# Altium integrated library IRF3710PBF-ND.IntLib: 1 symbol
Pins are listed as number, name and electrical type; pins without a type are passive.

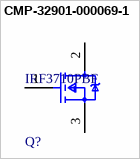
[diagram p0: symbol CMP-32901-000069-1]

## CMP-32901-000069-1
designator Q?, comment IRF3710PBF
MOSFET N-CH 100V 57A TO-220AB; Manufacturer: Infineon; Max Forward Diode Voltage: 1.2V; Turn Off Delay Time: 45ns; Number Of Channels: 1; Threshold Vgs Min: 2V; Gate To Source Voltage: 20V; Power Dissipation: 200W; Input Capacitace At Vds: 3130pF @ 25V; Drain To Source Resistance: 23mΩ; Threshold Vgs Max: 4V; Standoff Height: 3.37mm; Reverse Recovery Time: 140ns; Rthja Max: 62°C/W; Max Junction Temp: +175°C; Turn On Delay Time: 12ns; Pulse Drain Current: 180A; Gate Charge At Vgs: 130nC @ 10V; Reverse Recovery Charge: 670nC; Depletion Mode: False; Manufacturer Part Number: IRF3710PBF; Drain To Source Voltage: 100V; Category: Trans; Temperature Range High: +175°C; ComponentLink2Description: Datasheet; Octopart: https://octopart.com/irf3710pbf-infineon-65873359; Device Class L1: Discrete Semiconductors; ComponentLink2URL: https://www.infineon.com/dgdl/irf3710pbf.pdf?fileId=5546d462533600a4015355df95df1947; Lead Free: Yes; Continuous Drain Current: 57A; Height: 19.8mm; Automotive: No; Footprint Url: https://www.infineon.com/cms/en/product/packages/PG-TO220/PG-TO220-3-904/; Drain To Source Breakdown Voltage: 100V; Number Of N Channels: 1; Device Class L2: Transistors; RoHS: TRUE; Package: PG-TO220-3; Temperature Range Low: -55°C; Digikey Description: MOSFET N-CH 100V 57A TO-220AB; Temperature: -55°C to +175°C; Device Class L3: MOSFETs
footprint FP-PG-TO220-3-MFG
pins: 1 G, 2 D, 3 S